# EAGLE library part CP2119 (library LARS_409_MOTOR_DRIVER)
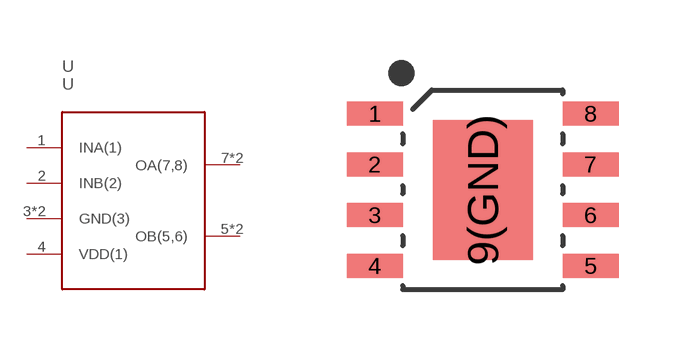
[diagram p0: symbol with the pads of SOIC-8; footprint SOIC-8]

Designator prefix U

## CP2119  [SOIC-8]
1  INA(1)  in
2  INB(2)  in
3  GND(3)  in
4  VDD(1)  in
5  OB(5,6)  out
6  OB(5,6)  out
7  OA(7,8)  out
8  OA(7,8)  out
9(GND)  GND(3)  in

## Footprint SOIC-8 (pad centres in mm)
smd 1.4 x 0.6: 1 -2.7,1.905; 2 -2.7,0.635; 3 -2.7,-0.635; 4 -2.7,-1.905; 5 2.7,-1.905; 6 2.7,-0.635; 7 2.7,0.635; 8 2.7,1.905
smd 2.5 x 3.5: 9(GND) 0,0